# EAGLE library part PIC24FJ64GA004-44TQFP (library EPL)
28/44-Pin General Purpose, 16-Bit Flash Microcontrollers
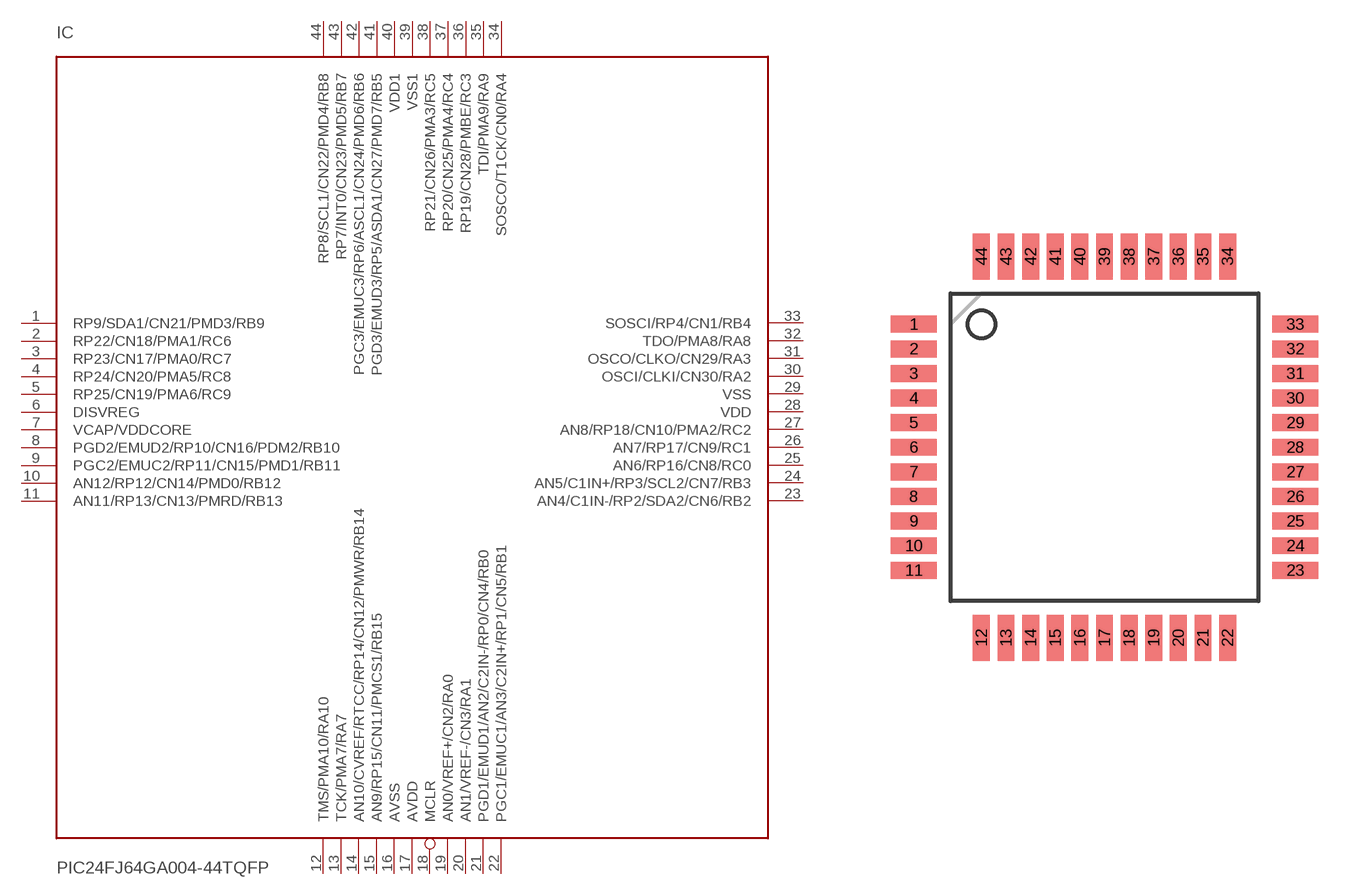
[diagram p1: symbol with the pads of TQFP; footprint TQFP]

Designator prefix IC

## PIC24FJ64GA004-44TQFP  [TQFP]
1  RP9/SDA1/CN21/PMD3/RB9
2  RP22/CN18/PMA1/RC6
3  RP23/CN17/PMA0/RC7
4  RP24/CN20/PMA5/RC8
5  RP25/CN19/PMA6/RC9
6  DISVREG
7  VCAP/VDDCORE
8  PGD2/EMUD2/RP10/CN16/PDM2/RB10
9  PGC2/EMUC2/RP11/CN15/PMD1/RB11
10  AN12/RP12/CN14/PMD0/RB12
11  AN11/RP13/CN13/PMRD/RB13
12  TMS/PMA10/RA10
13  TCK/PMA7/RA7
14  AN10/CVREF/RTCC/RP14/CN12/PMWR/RB14
15  AN9/RP15/CN11/PMCS1/RB15
16  AVSS
17  AVDD
18  MCLR
19  AN0/VREF+/CN2/RA0
20  AN1/VREF-/CN3/RA1
21  PGD1/EMUD1/AN2/C2IN-/RP0/CN4/RB0
22  PGC1/EMUC1/AN3/C2IN+/RP1/CN5/RB1
23  AN4/C1IN-/RP2/SDA2/CN6/RB2
24  AN5/C1IN+/RP3/SCL2/CN7/RB3
25  AN6/RP16/CN8/RC0
26  AN7/RP17/CN9/RC1
27  AN8/RP18/CN10/PMA2/RC2
28  VDD
29  VSS
30  OSCI/CLKI/CN30/RA2
31  OSCO/CLKO/CN29/RA3
32  TDO/PMA8/RA8
33  SOSCI/RP4/CN1/RB4
34  SOSCO/T1CK/CN0/RA4
35  TDI/PMA9/RA9
36  RP19/CN28/PMBE/RC3
37  RP20/CN25/PMA4/RC4
38  RP21/CN26/PMA3/RC5
39  VSS1
40  VDD1
41  PGD3/EMUD3/RP5/ASDA1/CN27/PMD7/RB5
42  PGC3/EMUC3/RP6/ASCL1/CN24/PMD6/RB6
43  RP7/INT0/CN23/PMD5/RB7
44  RP8/SCL1/CN22/PMD4/RB8

## Footprint TQFP (pad centres in mm)
44-Lead Plastic Thin Quad flatpack (PT) - 10x10x1 mm Body , 2.00 mm [TQFP]
smd 1.5 x 0.55: 1 -6.2,3.967; 2 -6.2,3.167; 3 -6.2,2.368; 4 -6.2,1.567; 5 -6.2,0.767; 6 -6.2,-0.033; 7 -6.2,-0.833; 8 -6.2,-1.633; 9 -6.2,-2.433; 10 -6.2,-3.232; 11 -6.2,-4.032; 23 6.2,-4.032; 24 6.2,-3.232; 25 6.2,-2.433; 26 6.2,-1.633; 27 6.2,-0.833; 28 6.2,-0.033; 29 6.2,0.767; 30 6.2,1.567; 31 6.2,2.368; 32 6.2,3.167; 33 6.2,3.967
smd 0.55 x 1.5: 12 -4,-6.232; 13 -3.2,-6.232; 14 -2.4,-6.232; 15 -1.6,-6.232; 16 -0.8,-6.232; 17 0,-6.232; 18 0.8,-6.232; 19 1.6,-6.232; 20 2.4,-6.232; 21 3.2,-6.232; 22 4,-6.232; 34 4,6.168; 35 3.2,6.168; 36 2.4,6.168; 37 1.6,6.168; 38 0.8,6.168; 39 0,6.168; 40 -0.8,6.168; 41 -1.6,6.168; 42 -2.4,6.168; 43 -3.2,6.168; 44 -4,6.168